# Altium schematic symbol library DTM15-12PA-G003.SchLib: 1 symbol
Pins are listed as number, name and electrical type; pins without a type are passive.

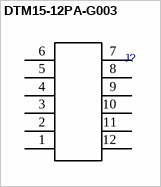
[diagram p0: symbol DTM15-12PA-G003]

## DTM15-12PA-G003
designator J?  (value not drawn)
HEADER, STRAIGHT, GOLD PINS; POSITIONS: 12; PITCH(MM): 0.157; ROWS/CONFIG: 2; Built_By: EMA_Justin; Vendor: TE Connectivity; Value: -; PRODUCT: -; TE Part Number: DTM15-12PA-G003; Manufacturer_Part_Number: DTM15-12PA-G003; Copyright: Copyright (C) 2016 Accelerated Designs. All rights reserved; Datasheet: https://www.te.com/commerce/DocumentDelivery/DDEController?Action=showdoc&DocId=Customer+Drawing%7FDTM15-12PX-G003%7F-%7Fpdf%7FEnglish%7FENG_CD_DTM15-12PX-G003_-.pdf%7FDTM15-12PA-G003
pins: 1, 2, 3, 4, 5, 6, 7, 8, 9, 10, 11, 12
2 alternate drawings of the same symbol